# Altium schematic symbol library kmilo17pet-TI_MSP430.SchLib: 1463 symbols (part 48 of 130)
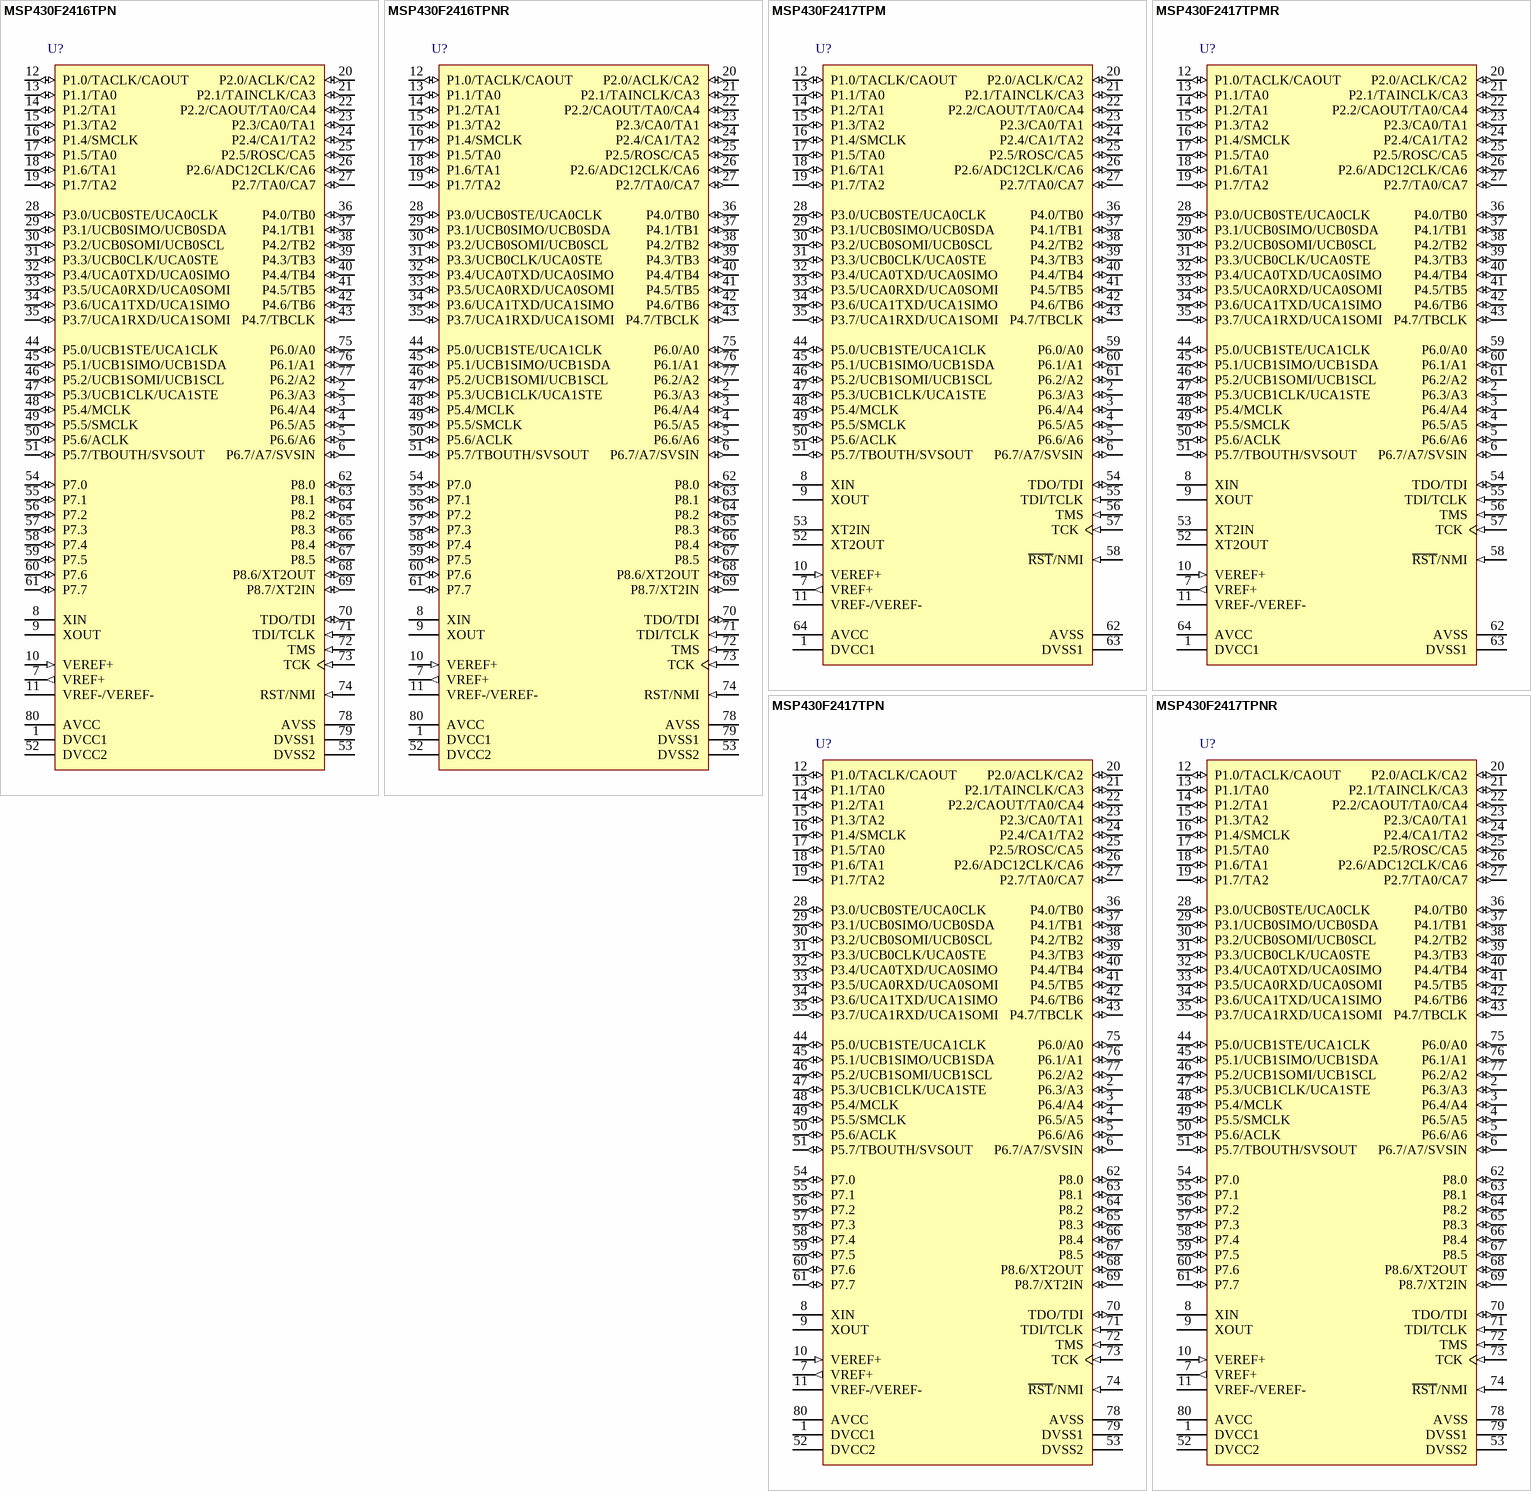
[diagram p360: symbols MSP430F2416TPN to MSP430F2417TPNR]

## MSP430F2416TPN
designator U?
16 MHz Mixed Signal Microcontroller with 92 KB Flash, 4096 B SRAM and 48 GPIOs, -40 to 105 degC, 80-pin QFP (PN), Green (RoHS & no Sb/Br); Manufacturer: Texas Instruments; PartNumber: MSP430F2416TPN; ADC: 12-bit SAR; ADC Channels: 8; Brown Out Reset: Yes; Flash(KB): 92; Frequency(MHz): 16; GPIO: 48; Multiplier: 16x16; SRAM(B): 4096; SubFamily: 2 Series, Extended Temp; Timers - 16-bit: 2; DatasheetVersion: SLAS541K; PackageReference: PN80; PackageDescription: 80-Pin Plastic Quad Flat Pack, Body 12 x 12 mm, Pitch 0.5 mm; Supplier 1: Digi-Key; Supplier Part Number 1: 296-22685-2-ND; Supplier 2: Digi-Key; Supplier Part Number 2: 296-22685-1-ND; Supplier 3: Digi-Key; Supplier Part Number 3: 296-22685-6-ND; Supplier 4: Mouser; Supplier Part Number 4: 595-MSP430F2416TPMR; Comparators: Yes; Eco-Plan: Green (RoHS & no Sb/Br); SVS: Yes; Temp Sensor: Yes; USCI_A (UART/LIN/IrDA/SPI): 2; USCI_B (I2C & SPI): 2; Watchdog: Yes; Mounting Technology: Surface Mount; Code_JEDEC: MS-018; ComponentLink1Description: Manufacturer URL; ComponentLink1URL: http://www.ti.com/; ComponentLink2Description: Datasheet; ComponentLink2URL: http://www.ti.com/general/docs/lit/getliterature.tsp?genericPartNumber=MSP430F2416&fileType=pdf; ComponentLink3Description: Package Specification; ComponentLink3URL: http://www.ti.com/lit/ml/mtqf010a/mtqf010a.pdf
footprint TI-PN80_N (QFP, 80-Leads, Body 12x12mm, Pitch 0.5mm, IPC Medium Density)
pins: 1 DVCC1 (power) "Digital supply voltage, positive terminal. Supplies all digital parts.", 2 P6.3/A3 (io), 3 P6.4/A4 (io), 4 P6.5/A5 (io), 5 P6.6/A6 (io), 6 P6.7/A7/SVSIN (io), 7 VREF+ (out) "Output of positive terminal of the reference voltage in the ADC12", 8 XIN "Input port for crystal oscillator XT1. Standard or watch crystals can be connected.", 9 XOUT "Output port for crystal oscillator XT1. Standard or watch crystals can be connected.", 10 VEREF+ (in) "Input for an external reference voltage", 11 VREF-/VEREF-, 12 P1.0/TACLK/CAOUT (io), 13 P1.1/TA0 (io), 14 P1.2/TA1 (io), 15 P1.3/TA2 (io), 16 P1.4/SMCLK (io), 17 P1.5/TA0 (io), 18 P1.6/TA1 (io), 19 P1.7/TA2 (io), 20 P2.0/ACLK/CA2 (io), 21 P2.1/TAINCLK/CA3 (io), 22 P2.2/CAOUT/TA0/CA4 (io), 23 P2.3/CA0/TA1 (io), 24 P2.4/CA1/TA2 (io), 25 P2.5/ROSC/CA5 (io), 26 P2.6/ADC12CLK/CA6 (io), 27 P2.7/TA0/CA7 (io), 28 P3.0/UCB0STE/UCA0CLK (io), 29 P3.1/UCB0SIMO/UCB0SDA (io), 30 P3.2/UCB0SOMI/UCB0SCL (io), 31 P3.3/UCB0CLK/UCA0STE (io), 32 P3.4/UCA0TXD/UCA0SIMO (io), 33 P3.5/UCA0RXD/UCA0SOMI (io), 34 P3.6/UCA1TXD/UCA1SIMO (io), 35 P3.7/UCA1RXD/UCA1SOMI (io), 36 P4.0/TB0 (io), 37 P4.1/TB1 (io), 38 P4.2/TB2 (io), 39 P4.3/TB3 (io), 40 P4.4/TB4 (io), 41 P4.5/TB5 (io), 42 P4.6/TB6 (io), 43 P4.7/TBCLK (io), 44 P5.0/UCB1STE/UCA1CLK (io), 45 P5.1/UCB1SIMO/UCB1SDA (io), 46 P5.2/UCB1SOMI/UCB1SCL (io), 47 P5.3/UCB1CLK/UCA1STE (io), 48 P5.4/MCLK (io), 49 P5.5/SMCLK (io), 50 P5.6/ACLK (io), 51 P5.7/TBOUTH/SVSOUT (io), 52 DVCC2 (power) "Digital supply voltage, positive terminal. Supplies all digital parts.", 53 DVSS2 (power) "Digital supply voltage, negative terminal. Supplies all digital parts.", 54 P7.0 (io) "General-purpose digital I/O pin", 55 P7.1 (io) "General-purpose digital I/O pin", 56 P7.2 (io) "General-purpose digital I/O pin", 57 P7.3 (io) "General-purpose digital I/O pin", 58 P7.4 (io) "General-purpose digital I/O pin", 59 P7.5 (io) "General-purpose digital I/O pin", 60 P7.6 (io) "General-purpose digital I/O pin", 61 P7.7 (io) "General-purpose digital I/O pin", 62 P8.0 (io) "General-purpose digital I/O pin", 63 P8.1 (io) "General-purpose digital I/O pin", 64 P8.2 (io) "General-purpose digital I/O pin", 65 P8.3 (io) "General-purpose digital I/O pin", 66 P8.4 (io) "General-purpose digital I/O pin", 67 P8.5 (io) "General-purpose digital I/O pin", 68 P8.6/XT2OUT (io), 69 P8.7/XT2IN (io), 70 TDO/TDI (io), 71 TDI/TCLK (in), 72 TMS (in) "Test mode select. TMS is used as an input port for device programming and test.", 73 TCK (in) "Test clock (JTAG). TCK is the clock input port for device programming test and bootstrap loader start", 74 RST/NMI (in), 75 P6.0/A0 (io), 76 P6.1/A1 (io), 77 P6.2/A2 (io), 78 AVSS (power) "Analog supply voltage, negative terminal. Supplies only the analog portion of ADC12 and DAC12.", 79 DVSS1 (power) "Digital supply voltage, negative terminal. Supplies all digital parts.", 80 AVCC (power) "Analog supply voltage, positive terminal. Supplies only the analog portion of ADC12 and DAC12."

## MSP430F2416TPNR
designator U?
16 MHz Mixed Signal Microcontroller with 92 KB Flash, 4096 B SRAM and 48 GPIOs, -40 to 105 degC, 80-pin QFP (PN), Green (RoHS & no Sb/Br); Manufacturer: Texas Instruments; PartNumber: MSP430F2416TPNR; ADC: 12-bit SAR; ADC Channels: 8; Brown Out Reset: Yes; Flash(KB): 92; Frequency(MHz): 16; GPIO: 48; Multiplier: 16x16; SRAM(B): 4096; SubFamily: 2 Series, Extended Temp; Timers - 16-bit: 2; DatasheetVersion: SLAS541K; PackageReference: PN80; PackageDescription: 80-Pin Plastic Quad Flat Pack, Body 12 x 12 mm, Pitch 0.5 mm; Supplier 1: Digi-Key; Supplier Part Number 1: 296-32649-ND; Supplier 2: Farnell; Supplier Part Number 2: 1649439; Supplier 3: Newark; Supplier Part Number 3: 61M7886; Supplier 4: Mouser; Supplier Part Number 4: 595-MSP430F2416TPN; Comparators: Yes; Eco-Plan: Green (RoHS & no Sb/Br); SVS: Yes; Temp Sensor: Yes; USCI_A (UART/LIN/IrDA/SPI): 2; USCI_B (I2C & SPI): 2; Watchdog: Yes; Mounting Technology: Surface Mount; Code_JEDEC: MS-018; ComponentLink1Description: Manufacturer URL; ComponentLink1URL: http://www.ti.com/; ComponentLink2Description: Datasheet; ComponentLink2URL: http://www.ti.com/general/docs/lit/getliterature.tsp?genericPartNumber=MSP430F2416&fileType=pdf; ComponentLink3Description: Package Specification; ComponentLink3URL: http://www.ti.com/lit/ml/mtqf010a/mtqf010a.pdf
footprint TI-PN80_N (QFP, 80-Leads, Body 12x12mm, Pitch 0.5mm, IPC Medium Density)
pins: 1 DVCC1 (power) "Digital supply voltage, positive terminal. Supplies all digital parts.", 2 P6.3/A3 (io), 3 P6.4/A4 (io), 4 P6.5/A5 (io), 5 P6.6/A6 (io), 6 P6.7/A7/SVSIN (io), 7 VREF+ (out) "Output of positive terminal of the reference voltage in the ADC12", 8 XIN "Input port for crystal oscillator XT1. Standard or watch crystals can be connected.", 9 XOUT "Output port for crystal oscillator XT1. Standard or watch crystals can be connected.", 10 VEREF+ (in) "Input for an external reference voltage", 11 VREF-/VEREF-, 12 P1.0/TACLK/CAOUT (io), 13 P1.1/TA0 (io), 14 P1.2/TA1 (io), 15 P1.3/TA2 (io), 16 P1.4/SMCLK (io), 17 P1.5/TA0 (io), 18 P1.6/TA1 (io), 19 P1.7/TA2 (io), 20 P2.0/ACLK/CA2 (io), 21 P2.1/TAINCLK/CA3 (io), 22 P2.2/CAOUT/TA0/CA4 (io), 23 P2.3/CA0/TA1 (io), 24 P2.4/CA1/TA2 (io), 25 P2.5/ROSC/CA5 (io), 26 P2.6/ADC12CLK/CA6 (io), 27 P2.7/TA0/CA7 (io), 28 P3.0/UCB0STE/UCA0CLK (io), 29 P3.1/UCB0SIMO/UCB0SDA (io), 30 P3.2/UCB0SOMI/UCB0SCL (io), 31 P3.3/UCB0CLK/UCA0STE (io), 32 P3.4/UCA0TXD/UCA0SIMO (io), 33 P3.5/UCA0RXD/UCA0SOMI (io), 34 P3.6/UCA1TXD/UCA1SIMO (io), 35 P3.7/UCA1RXD/UCA1SOMI (io), 36 P4.0/TB0 (io), 37 P4.1/TB1 (io), 38 P4.2/TB2 (io), 39 P4.3/TB3 (io), 40 P4.4/TB4 (io), 41 P4.5/TB5 (io), 42 P4.6/TB6 (io), 43 P4.7/TBCLK (io), 44 P5.0/UCB1STE/UCA1CLK (io), 45 P5.1/UCB1SIMO/UCB1SDA (io), 46 P5.2/UCB1SOMI/UCB1SCL (io), 47 P5.3/UCB1CLK/UCA1STE (io), 48 P5.4/MCLK (io), 49 P5.5/SMCLK (io), 50 P5.6/ACLK (io), 51 P5.7/TBOUTH/SVSOUT (io), 52 DVCC2 (power) "Digital supply voltage, positive terminal. Supplies all digital parts.", 53 DVSS2 (power) "Digital supply voltage, negative terminal. Supplies all digital parts.", 54 P7.0 (io) "General-purpose digital I/O pin", 55 P7.1 (io) "General-purpose digital I/O pin", 56 P7.2 (io) "General-purpose digital I/O pin", 57 P7.3 (io) "General-purpose digital I/O pin", 58 P7.4 (io) "General-purpose digital I/O pin", 59 P7.5 (io) "General-purpose digital I/O pin", 60 P7.6 (io) "General-purpose digital I/O pin", 61 P7.7 (io) "General-purpose digital I/O pin", 62 P8.0 (io) "General-purpose digital I/O pin", 63 P8.1 (io) "General-purpose digital I/O pin", 64 P8.2 (io) "General-purpose digital I/O pin", 65 P8.3 (io) "General-purpose digital I/O pin", 66 P8.4 (io) "General-purpose digital I/O pin", 67 P8.5 (io) "General-purpose digital I/O pin", 68 P8.6/XT2OUT (io), 69 P8.7/XT2IN (io), 70 TDO/TDI (io), 71 TDI/TCLK (in), 72 TMS (in) "Test mode select. TMS is used as an input port for device programming and test.", 73 TCK (in) "Test clock (JTAG). TCK is the clock input port for device programming test and bootstrap loader start", 74 RST/NMI (in), 75 P6.0/A0 (io), 76 P6.1/A1 (io), 77 P6.2/A2 (io), 78 AVSS (power) "Analog supply voltage, negative terminal. Supplies only the analog portion of ADC12 and DAC12.", 79 DVSS1 (power) "Digital supply voltage, negative terminal. Supplies all digital parts.", 80 AVCC (power) "Analog supply voltage, positive terminal. Supplies only the analog portion of ADC12 and DAC12."

## MSP430F2417TPM
designator U?
16 MHz Mixed Signal Microcontroller with 92 KB Flash, 8192 B SRAM and 48 GPIOs, -40 to 105 degC, 64-pin QFP (PM), Green (RoHS & no Sb/Br); Manufacturer: Texas Instruments; PartNumber: MSP430F2417TPM; ADC: 12-bit SAR; ADC Channels: 8; Brown Out Reset: Yes; Flash(KB): 92; Frequency(MHz): 16; GPIO: 48; Multiplier: 16x16; SRAM(B): 8192; SubFamily: 2 Series, Extended Temp; Timers - 16-bit: 2; DatasheetVersion: SLAS541K; PackageVersion: 4040152/C; PackageReference: PM64; PackageDescription: 64-Pin Plastic Quad Flat Pack, Body 10 x 10 mm, Pitch 0.5 mm; Supplier 1: Digi-Key; Supplier Part Number 1: 296-22686-2-ND; Supplier 2: Digi-Key; Supplier Part Number 2: 296-22686-1-ND; Supplier 3: Newark; Supplier Part Number 3: 61M7887; Supplier 4: Mouser; Supplier Part Number 4: 595-MSP430F2416TPNR; Comparators: Yes; Eco-Plan: Green (RoHS & no Sb/Br); SVS: Yes; Temp Sensor: Yes; USCI_A (UART/LIN/IrDA/SPI): 2; USCI_B (I2C & SPI): 2; Watchdog: Yes; Mounting Technology: Surface Mount; Code_JEDEC: MS-026; ComponentLink1Description: Manufacturer URL; ComponentLink1URL: http://www.ti.com/; ComponentLink2Description: Datasheet; ComponentLink2URL: http://www.ti.com/general/docs/lit/getliterature.tsp?genericPartNumber=MSP430F2417&fileType=pdf; ComponentLink3Description: Package Specification; ComponentLink3URL: http://www.ti.com/lit/ml/mtqf008a/mtqf008a.pdf
footprint TI-PM64_N (QFP, 64-Leads, Body 10x10mm, Pitch 0.5mm, IPC Medium Density)
pins: 1 DVCC1 (power) "Digital supply voltage, positive terminal. Supplies all digital parts.", 2 P6.3/A3 (io), 3 P6.4/A4 (io), 4 P6.5/A5 (io), 5 P6.6/A6 (io), 6 P6.7/A7/SVSIN (io), 7 VREF+ (out) "Output of positive terminal of the reference voltage in the ADC12", 8 XIN "Input port for crystal oscillator XT1. Standard or watch crystals can be connected.", 9 XOUT "Output port for crystal oscillator XT1. Standard or watch crystals can be connected.", 10 VEREF+ (in) "Input for an external reference voltage", 11 VREF-/VEREF-, 12 P1.0/TACLK/CAOUT (io), 13 P1.1/TA0 (io), 14 P1.2/TA1 (io), 15 P1.3/TA2 (io), 16 P1.4/SMCLK (io), 17 P1.5/TA0 (io), 18 P1.6/TA1 (io), 19 P1.7/TA2 (io), 20 P2.0/ACLK/CA2 (io), 21 P2.1/TAINCLK/CA3 (io), 22 P2.2/CAOUT/TA0/CA4 (io), 23 P2.3/CA0/TA1 (io), 24 P2.4/CA1/TA2 (io), 25 P2.5/ROSC/CA5 (io), 26 P2.6/ADC12CLK/CA6 (io), 27 P2.7/TA0/CA7 (io), 28 P3.0/UCB0STE/UCA0CLK (io), 29 P3.1/UCB0SIMO/UCB0SDA (io), 30 P3.2/UCB0SOMI/UCB0SCL (io), 31 P3.3/UCB0CLK/UCA0STE (io), 32 P3.4/UCA0TXD/UCA0SIMO (io), 33 P3.5/UCA0RXD/UCA0SOMI (io), 34 P3.6/UCA1TXD/UCA1SIMO (io), 35 P3.7/UCA1RXD/UCA1SOMI (io), 36 P4.0/TB0 (io), 37 P4.1/TB1 (io), 38 P4.2/TB2 (io), 39 P4.3/TB3 (io), 40 P4.4/TB4 (io), 41 P4.5/TB5 (io), 42 P4.6/TB6 (io), 43 P4.7/TBCLK (io), 44 P5.0/UCB1STE/UCA1CLK (io), 45 P5.1/UCB1SIMO/UCB1SDA (io), 46 P5.2/UCB1SOMI/UCB1SCL (io), 47 P5.3/UCB1CLK/UCA1STE (io), 48 P5.4/MCLK (io), 49 P5.5/SMCLK (io), 50 P5.6/ACLK (io), 51 P5.7/TBOUTH/SVSOUT (io), 52 XT2OUT "Output terminal of crystal oscillator XT2", 53 XT2IN "Input port for crystal oscillator XT2", 54 TDO/TDI (io), 55 TDI/TCLK (in), 56 TMS (in) "Test mode select. TMS is used as an input port for device programming and test.", 57 TCK (in) "Test clock (JTAG). TCK is the clock input port for device programming test and bootstrap loader start", 58 ~{RST}/NMI (in), 59 P6.0/A0 (io), 60 P6.1/A1 (io), 61 P6.2/A2 (io), 62 AVSS (power) "Analog supply voltage, negative terminal. Supplies only the analog portion of ADC12 and DAC12.", 63 DVSS1 (power) "Digital supply voltage, negative terminal. Supplies all digital parts.", 64 AVCC (power) "Analog supply voltage, positive terminal. Supplies only the analog portion of ADC12 and DAC12."

## MSP430F2417TPMR
designator U?
16 MHz Mixed Signal Microcontroller with 92 KB Flash, 8192 B SRAM and 48 GPIOs, -40 to 105 degC, 64-pin QFP (PM), Green (RoHS & no Sb/Br); Manufacturer: Texas Instruments; PartNumber: MSP430F2417TPMR; ADC: 12-bit SAR; ADC Channels: 8; Brown Out Reset: Yes; Flash(KB): 92; Frequency(MHz): 16; GPIO: 48; Multiplier: 16x16; SRAM(B): 8192; SubFamily: 2 Series, Extended Temp; Timers - 16-bit: 2; DatasheetVersion: SLAS541K; PackageVersion: 4040152/C; PackageReference: PM64; PackageDescription: 64-Pin Plastic Quad Flat Pack, Body 10 x 10 mm, Pitch 0.5 mm; Supplier 1: Digi-Key; Supplier Part Number 1: 296-32650-ND; Supplier 2: Farnell; Supplier Part Number 2: 1649440; Supplier 3: Newark; Supplier Part Number 3: 61M7888; Supplier 4: Mouser; Supplier Part Number 4: 595-MSP430F2417TPM; Comparators: Yes; Eco-Plan: Green (RoHS & no Sb/Br); SVS: Yes; Temp Sensor: Yes; USCI_A (UART/LIN/IrDA/SPI): 2; USCI_B (I2C & SPI): 2; Watchdog: Yes; Mounting Technology: Surface Mount; Code_JEDEC: MS-026; ComponentLink1Description: Manufacturer URL; ComponentLink1URL: http://www.ti.com/; ComponentLink2Description: Datasheet; ComponentLink2URL: http://www.ti.com/general/docs/lit/getliterature.tsp?genericPartNumber=MSP430F2417&fileType=pdf; ComponentLink3Description: Package Specification; ComponentLink3URL: http://www.ti.com/lit/ml/mtqf008a/mtqf008a.pdf
footprint TI-PM64_N (QFP, 64-Leads, Body 10x10mm, Pitch 0.5mm, IPC Medium Density)
pins: 1 DVCC1 (power) "Digital supply voltage, positive terminal. Supplies all digital parts.", 2 P6.3/A3 (io), 3 P6.4/A4 (io), 4 P6.5/A5 (io), 5 P6.6/A6 (io), 6 P6.7/A7/SVSIN (io), 7 VREF+ (out) "Output of positive terminal of the reference voltage in the ADC12", 8 XIN "Input port for crystal oscillator XT1. Standard or watch crystals can be connected.", 9 XOUT "Output port for crystal oscillator XT1. Standard or watch crystals can be connected.", 10 VEREF+ (in) "Input for an external reference voltage", 11 VREF-/VEREF-, 12 P1.0/TACLK/CAOUT (io), 13 P1.1/TA0 (io), 14 P1.2/TA1 (io), 15 P1.3/TA2 (io), 16 P1.4/SMCLK (io), 17 P1.5/TA0 (io), 18 P1.6/TA1 (io), 19 P1.7/TA2 (io), 20 P2.0/ACLK/CA2 (io), 21 P2.1/TAINCLK/CA3 (io), 22 P2.2/CAOUT/TA0/CA4 (io), 23 P2.3/CA0/TA1 (io), 24 P2.4/CA1/TA2 (io), 25 P2.5/ROSC/CA5 (io), 26 P2.6/ADC12CLK/CA6 (io), 27 P2.7/TA0/CA7 (io), 28 P3.0/UCB0STE/UCA0CLK (io), 29 P3.1/UCB0SIMO/UCB0SDA (io), 30 P3.2/UCB0SOMI/UCB0SCL (io), 31 P3.3/UCB0CLK/UCA0STE (io), 32 P3.4/UCA0TXD/UCA0SIMO (io), 33 P3.5/UCA0RXD/UCA0SOMI (io), 34 P3.6/UCA1TXD/UCA1SIMO (io), 35 P3.7/UCA1RXD/UCA1SOMI (io), 36 P4.0/TB0 (io), 37 P4.1/TB1 (io), 38 P4.2/TB2 (io), 39 P4.3/TB3 (io), 40 P4.4/TB4 (io), 41 P4.5/TB5 (io), 42 P4.6/TB6 (io), 43 P4.7/TBCLK (io), 44 P5.0/UCB1STE/UCA1CLK (io), 45 P5.1/UCB1SIMO/UCB1SDA (io), 46 P5.2/UCB1SOMI/UCB1SCL (io), 47 P5.3/UCB1CLK/UCA1STE (io), 48 P5.4/MCLK (io), 49 P5.5/SMCLK (io), 50 P5.6/ACLK (io), 51 P5.7/TBOUTH/SVSOUT (io), 52 XT2OUT "Output terminal of crystal oscillator XT2", 53 XT2IN "Input port for crystal oscillator XT2", 54 TDO/TDI (io), 55 TDI/TCLK (in), 56 TMS (in) "Test mode select. TMS is used as an input port for device programming and test.", 57 TCK (in) "Test clock (JTAG). TCK is the clock input port for device programming test and bootstrap loader start", 58 ~{RST}/NMI (in), 59 P6.0/A0 (io), 60 P6.1/A1 (io), 61 P6.2/A2 (io), 62 AVSS (power) "Analog supply voltage, negative terminal. Supplies only the analog portion of ADC12 and DAC12.", 63 DVSS1 (power) "Digital supply voltage, negative terminal. Supplies all digital parts.", 64 AVCC (power) "Analog supply voltage, positive terminal. Supplies only the analog portion of ADC12 and DAC12."